# Altium footprint library Murata_LQM2MPN4R7MG0L.PcbLib: 4 footprints
Each footprint in its own frame and in the unit in brackets; x right, y up, seen from the top. Pads: shape width x height; smd on the part's side, far side on the other; paste and mask are expansions set on the pad; w line width, h text height; cw(c..) or ccw(c..) is an arc to the next point about the centre after c.
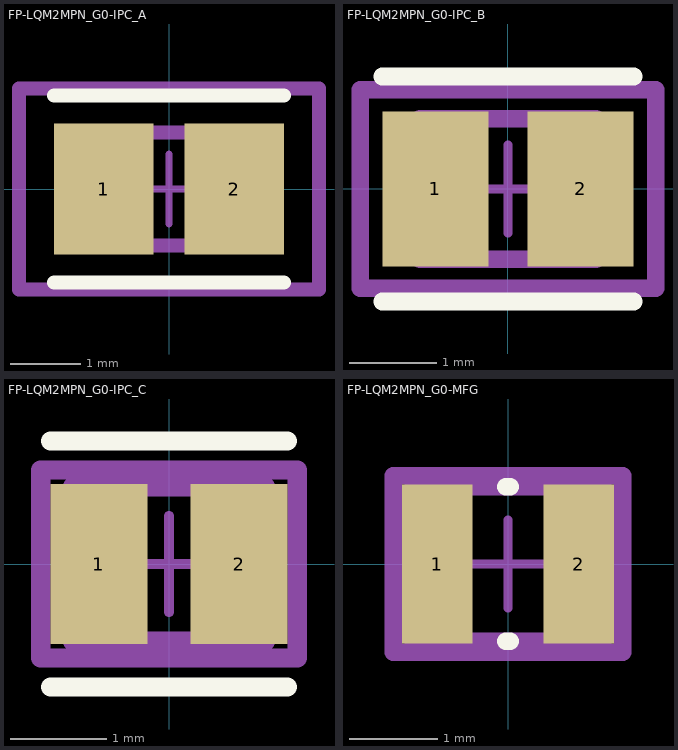
[diagram p0: the footprints below, top view; thin cyan lines are the x and y axes]

## FP-LQM2MPN_G0-IPC_A [mm]
pads (2):
  rect 1.406x1.858 smd paste+0 mask+0: 1(-0.926,0) 2(0.926,0)
Top Overlay:
  lines w0.2: -1.629,-1.329 1.629,-1.329 ; -1.629,1.329 1.629,1.329
Top Assembly:
  lines w0.2: -2.129,-1.429 2.129,-1.429 2.129,1.429 -2.129,1.429 -2.129,-1.429
  text ".Designator" at 0,0.188 h1
Top 3D Body:
  lines w0.2: -1,-0.8 1,-0.8 1,0.8 -1,0.8 -1,-0.8
Top Courtyard:
  lines w0.2: -2.129,-1.429 2.129,-1.429 2.129,1.429 -2.129,1.429 -2.129,-1.429
Top Component Center:
  lines w0.1: -0.5,0 0.5,0 ; 0,-0.5 0,0.5
3D body "Ind_Murata_LQM2MPN1R5MG0B_eec.STEP": height 0.25, standoff 0, extent -2.129,-1.429 2.129,1.429

## FP-LQM2MPN_G0-IPC_B [mm]
pads (2):
  rect 1.206x1.758 smd paste+0 mask+0: 1(-0.826,0) 2(0.826,0)
Top Overlay:
  lines w0.2: -1.429,-1.279 1.429,-1.279 ; -1.429,1.279 1.429,1.279
Top Assembly:
  lines w0.2: -1.679,-1.129 1.679,-1.129 1.679,1.129 -1.679,1.129 -1.679,-1.129
  text ".Designator" at 0,0.188 h1
Top 3D Body:
  lines w0.2: -1,-0.8 1,-0.8 1,0.8 -1,0.8 -1,-0.8
Top Courtyard:
  lines w0.2: -1.679,-1.129 1.679,-1.129 1.679,1.129 -1.679,1.129 -1.679,-1.129
Top Component Center:
  lines w0.1: -0.5,0 0.5,0 ; 0,-0.5 0,0.5
3D body "Ind_Murata_LQM2MPN1R5MG0B_eec.STEP": height 0.25, standoff 0, extent -1.679,-1.129 1.679,1.129

## FP-LQM2MPN_G0-IPC_C [mm]
pads (2):
  rect 1.006x1.658 smd paste+0 mask+0: 1(-0.726,0) 2(0.726,0)
Top Overlay:
  lines w0.2: -1.229,-1.275 1.229,-1.275 ; -1.229,1.275 1.229,1.275
Top Assembly:
  lines w0.2: -1.329,-0.975 1.329,-0.975 1.329,0.975 -1.329,0.975 -1.329,-0.975
  text ".Designator" at 0,0.188 h1
Top 3D Body:
  lines w0.2: -1,-0.8 1,-0.8 1,0.8 -1,0.8 -1,-0.8
Top Courtyard:
  lines w0.2: -1.329,-0.975 1.329,-0.975 1.329,0.975 -1.329,0.975 -1.329,-0.975
Top Component Center:
  lines w0.1: -0.5,0 0.5,0 ; 0,-0.5 0,0.5
3D body "Ind_Murata_LQM2MPN1R5MG0B_eec.STEP": height 0.25, standoff 0, extent -1.329,-0.975 1.329,0.975

## FP-LQM2MPN_G0-MFG [mm]
pads (2):
  rect 0.8x1.8 smd paste+0 mask+0: 1(-0.8,0) 2(0.8,0)
Top Overlay:
  lines w0.2: -0.025,-0.875 0.025,-0.875 ; -0.025,0.875 0.025,0.875
Top Assembly:
  lines w0.2: -1.3,-1 1.3,-1 1.3,1 -1.3,1 -1.3,-1
  text ".Designator" at 0,0.188 h1
Top 3D Body:
  lines w0.2: -1.075,-0.875 1.075,-0.875 1.075,0.875 -1.075,0.875 -1.075,-0.875
Top Courtyard:
  lines w0.2: -1.3,-1 1.3,-1 1.3,1 -1.3,1 -1.3,-1
Top Component Center:
  lines w0.1: -0.5,0 0.5,0 ; 0,-0.5 0,0.5
3D body "Ind_Murata_LQM2MPN1R5MG0B_eec.STEP": height 0.25, standoff 0, extent -1.3,-1 1.3,1